# Altium schematic symbol library Fuse.SchLib: 3 symbols
Pins are listed as number, name and electrical type; pins without a type are passive.

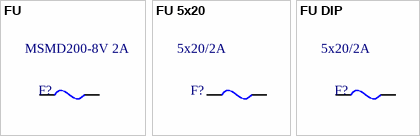
[diagram p0: symbols FU to FU DIP]

## FU
designator F?, comment MSMD200-8V 2A
Chip fuse; BOM名称: 贴片保险丝; 版权归属: 源创客; 学习资源: www.ooocke.com
footprint FU 0402 (贴片保险丝)
footprint FU 0603 (贴片保险丝)
footprint FU 0805 (贴片保险丝)
footprint FU 1206 (贴片保险丝)
footprint FU 1210 (贴片保险丝)
footprint FU 1812 (贴片保险丝)
pins: 1, 2

## FU 5x20
designator F?, comment 5x20/2A
5*20 fuse; BOM名称: 5*20保险丝; 版权归属: 源创客; 学习资源: www.ooocke.com
footprint FU BLX-A (BLX-A型保险丝座)
footprint FU 5x20 (5*20保险管底座夹子)
pins: 1, 2

## FU DIP
designator F?, comment 5x20/2A
Inline fuse; BOM名称: 直插保险丝; 版权归属: 源创客; 学习资源: www.ooocke.com
footprint FU 4x16 (4*16mm(直径，脚距）)
footprint FU 4x16_V (4*16mm(直径，脚距）)
pins: 1, 2